# EAGLE library part E73-2G4M08S1CX (library tecsmith_nordic)
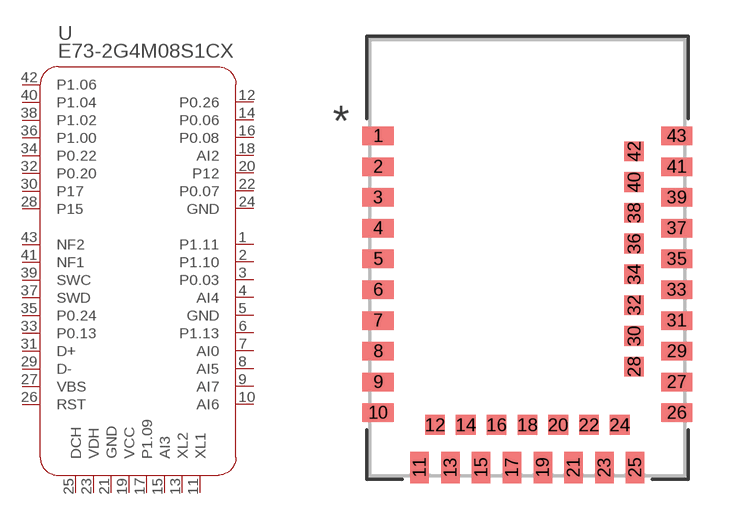
[diagram p0: symbol with the pads of E73-2G4M08S1CX; footprint E73-2G4M08S1CX]

Designator prefix U

## E73-2G4M08S1CX (COPYRIGHT: Copyright (C) 2025 Ultra Librarian. All rights reserved.; MANUFACTURER_NAME: Chengdu Ebyte Elec Tech; MANUFACTURER_PART_NUMBER: E73-2G4M08S1CX; TYPE: RF)  [E73-2G4M08S1CX]
1  P1.11
2  P1.10
3  P0.03
4  AI4
5  GND  pas
6  P1.13
7  AI0
8  AI5
9  AI7
10  AI6
11  XL1
12  P0.26
13  XL2
14  P0.06
15  AI3
16  P0.08
17  P1.09
18  AI2
19  VCC  pwr
20  P12
21  GND  pas
22  P0.07
23  VDH  pwr
24  GND  pas
25  DCH  pwr
26  RST
27  VBS  pwr
28  P15
29  D-
30  P17
31  D+
32  P0.20
33  P0.13
34  P0.22
35  P0.24
36  P1.00
37  SWD
38  P1.02
39  SWC
40  P1.04
41  NF1
42  P1.06
43  NF2

## Footprint E73-2G4M08S1CX (pad centres in mm)
smd 1.295 x 0.762: 1 -6.16,5.03; 2 -6.16,3.76; 3 -6.16,2.49; 4 -6.16,1.22; 5 -6.16,-0.05; 6 -6.16,-1.32; 7 -6.16,-2.59; 8 -6.16,-3.86; 9 -6.16,-5.13; 10 -6.16,-6.4; 26 6.16,-6.4; 27 6.16,-5.13; 29 6.16,-3.86; 31 6.16,-2.59; 33 6.16,-1.32; 35 6.16,-0.05; 37 6.16,1.22; 39 6.16,2.49; 41 6.16,3.76; 43 6.16,5.03
smd 0.762 x 1.295: 11 -4.445,-8.661; 13 -3.175,-8.661; 15 -1.905,-8.661; 17 -0.635,-8.661; 19 0.635,-8.661; 21 1.905,-8.661; 23 3.175,-8.661; 25 4.445,-8.661
smd 0.813 x 0.813: 12 -3.81,-6.9; 14 -2.54,-6.9; 16 -1.27,-6.9; 18 0,-6.9; 20 1.27,-6.9; 22 2.54,-6.9; 24 3.81,-6.9; 28 4.4,-4.495; 30 4.4,-3.225; 32 4.4,-1.955; 34 4.4,-0.685; 36 4.4,0.585; 38 4.4,1.855; 40 4.4,3.125; 42 4.4,4.395